# Altium integrated library STMicroelectronics.IntLib: 3 symbols
Pins are listed as number, name and electrical type; pins without a type are passive.

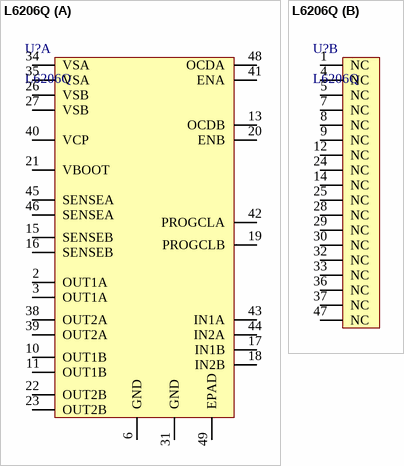
[diagram p0: symbol L6206Q]

## L6206Q
designator U?
DMOS dual full bridge driver
footprint QFN48 7X7_M (48脚，长x宽x高：7x7x1mm，脚距：0.5mm)
footprint QFN48 7X7_L (48脚，长x宽x高：7x7x1mm，脚距：0.5mm)
footprint QFN48 7X7_N (48脚，长x宽x高：7x7x1mm，脚距：0.5mm)
part A pins: 2 OUT1A, 3 OUT1A, 6 GND, 10 OUT1B, 11 OUT1B, 13 OCDB, 15 SENSEB, 16 SENSEB, 17 IN1B, 18 IN2B, 19 PROGCLB, 20 ENB, 21 VBOOT, 22 OUT2B, 23 OUT2B, 26 VSB, 27 VSB, 31 GND, 34 VSA, 35 VSA, 38 OUT2A, 39 OUT2A, 40 VCP, 41 ENA, 42 PROGCLA, 43 IN1A, 44 IN2A, 45 SENSEA, 46 SENSEA, 48 OCDA, 49 EPAD
part B pins: 1 NC, 4 NC, 5 NC, 7 NC, 8 NC, 9 NC, 12 NC, 14 NC, 24 NC, 25 NC, 28 NC, 29 NC, 30 NC, 32 NC, 33 NC, 36 NC, 37 NC, 47 NC


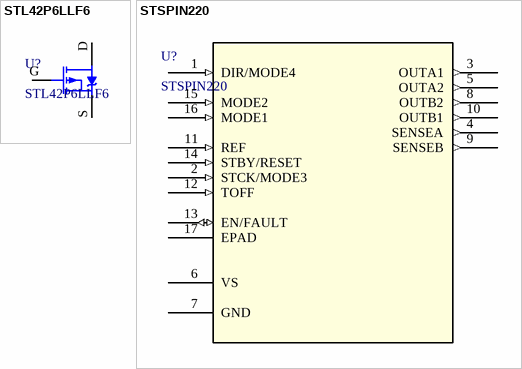
[diagram p1: symbols STL42P6LLF6 to STSPIN220]

## STL42P6LLF6
designator U?
P-channel -60 V, 23 mΩ typ., -42 A STripFET F6 / Power MOSFET in a PowerFLAT 5x6 package
footprint PowerFLAT 5x6
pins: D, G, S

## STSPIN220
designator U?
Low voltage stepper motor driver; SourceLibrary: Update_to_database_2020-12-04; Built_By: EMA_Jessica; Vendor: STMicroelectronics; Copyright: Copyright (C) 2018 Accelerated Designs. All rights reserved; Manufacturer_Part_Number: STSPIN220; RefDes: RefDes; Type: DEV
footprint VFQFPN-16_STM
footprint VFQFPN-16_STM-L
footprint VFQFPN-16_STM-M
pins: 1 DIR/MODE4 (in), 2 STCK/MODE3 (in), 3 OUTA1 (out), 4 SENSEA (out), 5 OUTA2 (out), 6 VS (power), 7 GND (power), 8 OUTB2 (out), 9 SENSEB (out), 10 OUTB1 (out), 11 REF (in), 12 TOFF (in), 13 EN/FAULT (io), 14 STBY/RESET (in), 15 MODE2 (in), 16 MODE1 (in), 17 EPAD